# EAGLE library part 610X2421821 (library Eagle_BOARD-TO-BOARD_CONNECTORS (rev18b))
WR-PHD 2.54mm SMT Socket Header=>Code : Con_BTB_SHD_2.54_1_SMT_610x0421821(packageing:x = 0: Tube x = 3: Tape & Reel with Cap; 600 pcs/Reel) <http://katalog.we-online.de/media/images/eican/Con_BTB_SHD_2.54_1_SMT_6100xx21821_pf2.jpg> 6100xx21821 Details see: http://katalog.we-online.de/en/em/PHD_2_54_SMT_DUAL_SOCKET_HEADER_6100XX21821 6103xx21821 Details see: http://katalog.we-online.de/en/em/PHD_2_54_SMT_DUAL_SOCKET_HEADER_REEL_6103XX21821 2014 (C) Würth Elektronik
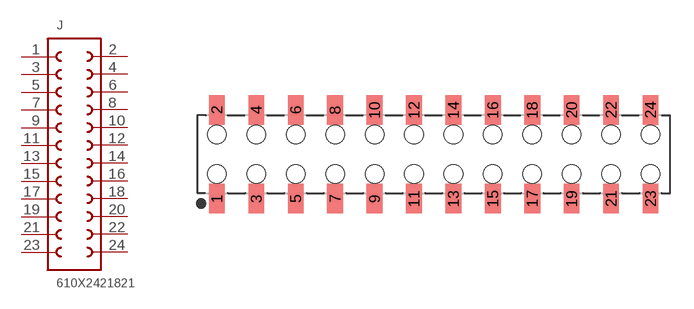
[diagram p210: symbol with the pads of 610X2421821; footprint 610X2421821]

Designator prefix J

## 610X2421821  [610X2421821]
1  1  pas
2  24  pas
3  2  pas
4  23  pas
5  3  pas
6  22  pas
7  4  pas
8  21  pas
9  5  pas
10  20  pas
11  6  pas
12  19  pas
13  7  pas
14  18  pas
15  8  pas
16  17  pas
17  9  pas
18  16  pas
19  10  pas
20  15  pas
21  11  pas
22  14  pas
23  12  pas
24  13  pas

## Footprint 610X2421821 (pad centres in mm)
WR-PHD 2.54mm Dual SMT Socket Header, 24 Pins
smd 1.02 x 1.9: 1 -13.97,-2.85; 2 -13.97,2.85; 3 -11.43,-2.85; 4 -11.43,2.85; 5 -8.89,-2.85; 6 -8.89,2.85; 7 -6.35,-2.85; 8 -6.35,2.85; 9 -3.81,-2.85; 10 -3.81,2.85; 11 -1.27,-2.85; 12 -1.27,2.85; 13 1.27,-2.85; 14 1.27,2.85; 15 3.81,-2.85; 16 3.81,2.85; 17 6.35,-2.85; 18 6.35,2.85; 19 8.89,-2.85; 20 8.89,2.85; 21 11.43,-2.85; 22 11.43,2.85; 23 13.97,-2.85; 24 13.97,2.85
hole 1.2 at -13.97,-1.27
hole 1.2 at -11.43,-1.27
hole 1.2 at -11.43,1.27
hole 1.2 at -13.97,1.27
hole 1.2 at -8.89,-1.27
hole 1.2 at -8.89,1.27
hole 1.2 at -6.35,1.27
hole 1.2 at -6.35,-1.27
hole 1.2 at -3.81,-1.27
hole 1.2 at -3.81,1.27
hole 1.2 at -1.27,-1.27
hole 1.2 at -1.27,1.27
hole 1.2 at 1.27,1.27
hole 1.2 at 1.27,-1.27
hole 1.2 at 3.81,1.27
hole 1.2 at 3.81,-1.27
hole 1.2 at 6.35,-1.27
hole 1.2 at 6.35,1.27
hole 1.2 at 8.89,-1.27
hole 1.2 at 8.89,1.27
hole 1.2 at 11.43,1.27
hole 1.2 at 11.43,-1.27
hole 1.2 at 13.97,-1.27
hole 1.2 at 13.97,1.27